# Altium schematic symbol library LPPB061NGCN-RC.SchLib: 2 symbols
Pins are listed as number, name and electrical type; pins without a type are passive.

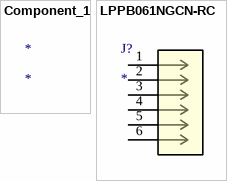
[diagram p0: symbols Component_1 to LPPB061NGCN-RC]

## Component_1
designator *

## LPPB061NGCN-RC
designator J?
No Description Available; Mfr_Name: Sullins; RefDes: RefDes; Type: Type
footprint CONN_LPPB061NGCN-RC_SUL
pins: 1, 2, 3, 4, 5, 6